# EAGLE library part USBC_FEMALE (library pepin)
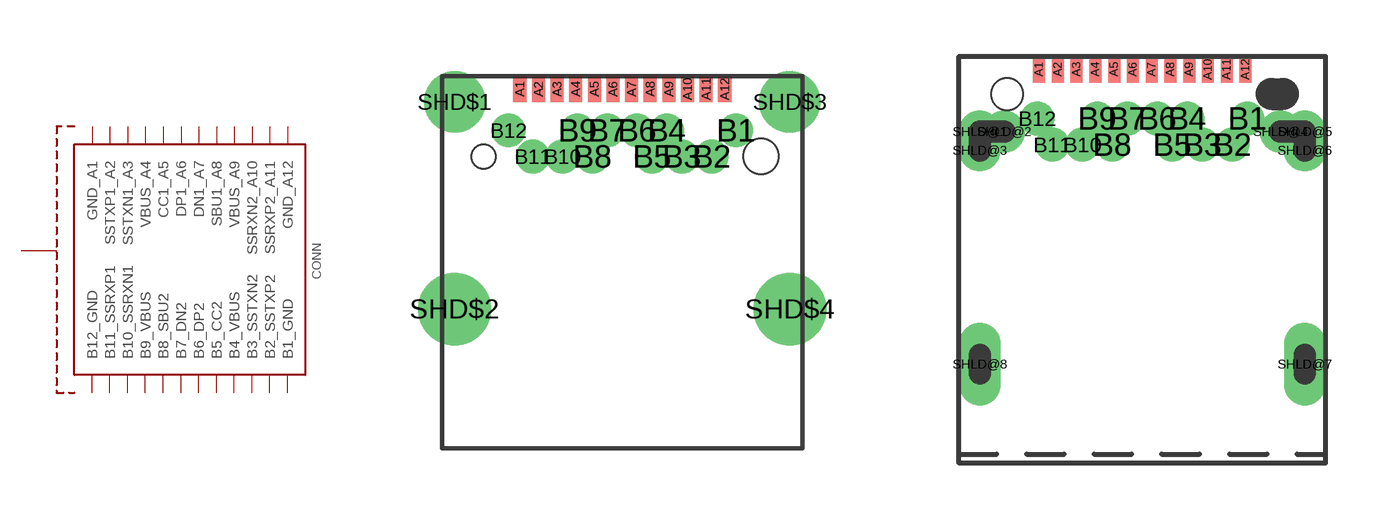
[diagram p9: symbol with the pads of USBC_UJ31-CH-G2-SMT-TR; footprints USBC_UJ31-CH-G2-SMT-TR, USBC_UJ31-CH-31-SMT-TR]

Designator prefix CONN

## USBC_FEMALEUJ31-CH-G2-SMT-TR  [USBC_UJ31-CH-G2-SMT-TR]
A1  GND_A1  pwr
A2  SSTXP1_A2
A3  SSTXN1_A3
A4  VBUS_A4  pwr
A5  CC1_A5
A6  DP1_A6
A7  DN1_A7
A8  SBU1_A8
A9  VBUS_A9  pwr
A10  SSRXN2_A10
A11  SSRXP2_A11
A12  GND_A12  pwr
B1  B1_GND  pwr
B2  B2_SSTXP2
B3  B3_SSTXN2
B4  B4_VBUS  pwr
B5  B5_CC2
B6  B6_DP2
B7  B7_DN2
B8  B8_SBU2
B9  B9_VBUS  pwr
B10  B10_SSRXN1
B11  B11_SSRXP1
B12  B12_GND  pwr
SHD$1  SHLD  pwr
SHD$2  SHLD  pwr
SHD$3  SHLD  pwr
SHD$4  SHLD  pwr

## USBC_FEMALEUJ31-CH-31-SMT-TR  [USBC_UJ31-CH-31-SMT-TR]
A1  GND_A1  pwr
A2  SSTXP1_A2
A3  SSTXN1_A3
A4  VBUS_A4  pwr
A5  CC1_A5
A6  DP1_A6
A7  DN1_A7
A8  SBU1_A8
A9  VBUS_A9  pwr
A10  SSRXN2_A10
A11  SSRXP2_A11
A12  GND_A12  pwr
B1  B1_GND  pwr
B2  B2_SSTXP2
B3  B3_SSTXN2
B4  B4_VBUS  pwr
B5  B5_CC2
B6  B6_DP2
B7  B7_DN2
B8  B8_SBU2
B9  B9_VBUS  pwr
B10  B10_SSRXN1
B11  B11_SSRXP1
B12  B12_GND  pwr
SHLD@1  SHLD  pwr
SHLD@2  SHLD  pwr
SHLD@3  SHLD  pwr
SHLD@4  SHLD  pwr
SHLD@5  SHLD  pwr
SHLD@6  SHLD  pwr
SHLD@7  SHLD  pwr
SHLD@8  SHLD  pwr

## USBC_FEMALECUI_UJ31  [CUI_UJ31-CH-31-SMT-TR]
A1  GND_A1  pwr
A2  SSTXP1_A2
A3  SSTXN1_A3
A4  VBUS_A4  pwr
A5  CC1_A5
A6  DP1_A6
A7  DN1_A7
A8  SBU1_A8
A9  VBUS_A9  pwr
A10  SSRXN2_A10
A11  SSRXP2_A11
A12  GND_A12  pwr
B1  B1_GND  pwr
B2  B2_SSTXP2
B3  B3_SSTXN2
B4  B4_VBUS  pwr
B5  B5_CC2
B6  B6_DP2
B7  B7_DN2
B8  B8_SBU2
B9  B9_VBUS  pwr
B10  B10_SSRXN1
B11  B11_SSRXP1
B12  B12_GND  pwr
SH1  SHLD  pwr
SH2  SHLD  pwr
SH3  SHLD  pwr
SH4  SHLD  pwr
SH5  SHLD  pwr
SH6  SHLD  pwr

## Footprint USBC_UJ31-CH-G2-SMT-TR (pad centres in mm)
smd 0.35 x 0.7: A1 -2.75,-0.35; A2 -2.25,-0.35; A3 -1.75,-0.35; A4 -1.25,-0.35; A5 -0.75,-0.35; A6 -0.25,-0.35; A7 0.25,-0.35; A8 0.75,-0.35; A9 1.25,-0.35; A10 1.75,-0.35; A11 2.25,-0.35; A12 2.75,-0.35
drill 0.4 pad 0.65: B1 3.05,-1.46; B2 2.4,-2.16; B3 1.6,-2.16; B4 1.2,-1.46; B5 0.8,-2.16; B6 0.4,-1.46; B7 -0.4,-1.46; B8 -0.8,-2.16; B9 -1.2,-1.46; B10 -1.6,-2.16; B11 -2.4,-2.16; B12 -3.05,-1.46
drill 1.1 pad 1.6: SHD$1 -4.5,-0.7; SHD$3 4.5,-0.7
drill 1.3 pad 1.8: SHD$2 -4.5,-6.26; SHD$4 4.5,-6.26
hole 0.65 at -3.725,-2.16
hole 0.95 at 3.725,-2.16

## Footprint USBC_UJ31-CH-31-SMT-TR (pad centres in mm)
smd 0.32 x 0.7: A1 -2.75,-0.35; A2 -2.25,-0.35; A3 -1.75,-0.35; A4 -1.25,-0.35; A5 -0.75,-0.35; A6 -0.25,-0.35; A7 0.25,-0.35; A8 0.75,-0.35; A9 1.25,-0.35; A10 1.75,-0.35; A11 2.25,-0.35; A12 2.75,-0.35
drill 0.4 pad 0.6: B1 2.8,-1.66; B2 2.4,-2.36; B3 1.6,-2.36; B4 1.2,-1.66; B5 0.8,-2.36; B6 0.4,-1.66; B7 -0.4,-1.66; B8 -0.8,-2.36; B9 -1.2,-1.66; B10 -1.6,-2.36; B11 -2.4,-2.36; B12 -2.8,-1.66
drill 0.6 pad 0.9: SHLD@1 -4.33,-2.01; SHLD@2 -3.68,-2.01; SHLD@3 -4.33,-2.51; SHLD@4 3.68,-2.01; SHLD@5 4.33,-2.01; SHLD@6 4.33,-2.51
drill 0.6 pad 0.9 long: SHLD@7 4.33,-8.21; SHLD@8 -4.33,-8.21
hole 0.85 at -3.6,-1.01

## Footprint CUI_UJ31-CH-31-SMT-TR (pad centres in mm)
smd 0.32 x 0.7: A1 -2.75,-0.35; A2 -2.25,-0.35; A3 -1.75,-0.35; A4 -1.25,-0.35; A5 -0.75,-0.35; A6 -0.25,-0.35; A7 0.25,-0.35; A8 0.75,-0.35; A9 1.25,-0.35; A10 1.75,-0.35; A11 2.25,-0.35; A12 2.75,-0.35
drill 0.4 pad 0.6: B1 2.8,-1.66; B2 2.4,-2.36; B3 1.6,-2.36; B4 1.2,-1.66; B5 0.8,-2.36; B6 0.4,-1.66; B7 -0.4,-1.66; B8 -0.8,-2.36; B9 -1.2,-1.66; B10 -1.6,-2.36; B11 -2.4,-2.36; B12 -2.8,-1.66
drill 0.6 pad 0.8 long: SH1 -4.005,-2.01; SH2 4.005,-2.01
drill 0.6 pad 0.9 long: SH3 -4.33,-2.51; SH4 4.33,-2.51; SH5 -4.33,-8.21; SH6 4.33,-8.21
hole 0.85 at -3.6,-1.01
hole 0.85 at 3.6,-1.01